# Altium footprint library STC智能车.PcbLib: 23 footprints (part 1 of 2)
Each footprint in its own frame and in the unit in brackets; x right, y up, seen from the top. Pads: shape width x height; smd on the part's side, far side on the other; paste and mask are expansions set on the pad; w line width, h text height; cw(c..) or ccw(c..) is an arc to the next point about the centre after c.
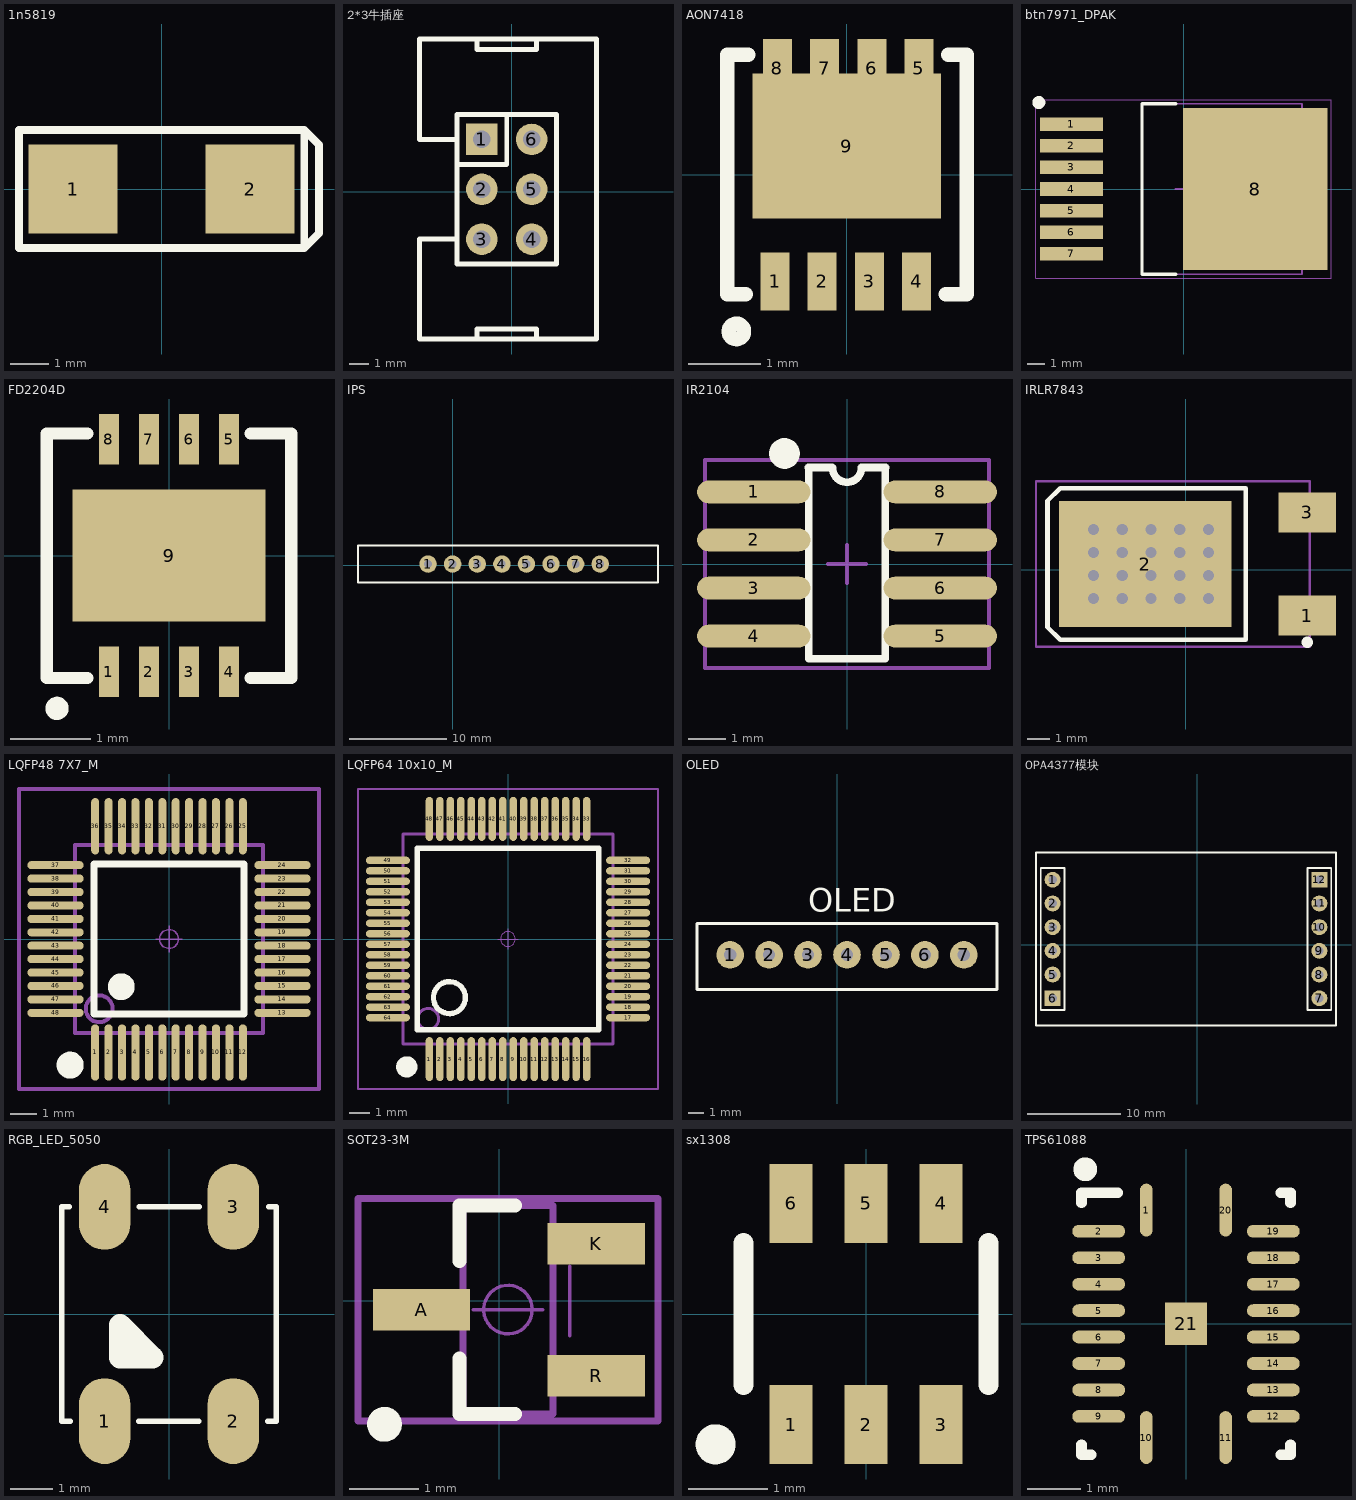
[diagram p0: the footprints below, top view; thin cyan lines are the x and y axes]

## 1n5819 [mm]
pads (2):
  rect 2.3x2.3 smd: 1(-2.286,0) 2(2.286,0)
Top Overlay:
  lines w0.2: -3.683,-1.524 -3.683,1.524 3.683,1.524 3.683,-1.524 -3.683,-1.524
  lines w0.203: 3.683,-1.524 4.064,-1.143 4.064,1.143 3.683,1.524
3D body "SOD-123.STEP": height 1.22, standoff 0, extent -1.85,-0.8 1.85,0.8

## 2*3牛插座 [mm]
pads (6):
  rect 1.6x1.6 hole 0.9: 1(-1.524,2.654)
  round 1.6 hole 0.9: 2(-1.524,0.114) 3(-1.524,-2.426) 4(1.016,-2.426) 5(1.016,0.114) 6(1.016,2.654)
Top Overlay:
  lines w0.254: -2.794,-2.426 -4.699,-2.426 -4.699,-7.506 4.318,-7.506 4.318,7.764 -4.699,7.764 -4.699,2.654 -2.794,2.654 ; -2.794,1.384 -0.254,1.384 -0.254,3.924 ; -1.778,-7.506 -1.778,-6.998 1.27,-6.998 1.27,-7.379 ; -1.778,7.764 -1.778,7.226 1.27,7.226 1.27,7.734 ; -2.794,-3.696 -2.794,3.924 2.286,3.924 2.286,-3.696 -2.794,-3.696
Bottom Overlay:
  lines w0.6: -2.54,-1.156 1.829,-1.156 ; -2.54,1.384 1.829,1.384 ; -0.254,-3.696 -0.254,3.696
3D body "IDC2.54-6P.STEP": height 9.17, standoff -3, extent -4.604,-7.506 4.246,7.734

## AON7418 [mil]
pads (9):
  rect 15.74x31.5 smd: 1(-39.04,-57.87) 2(-13.45,-57.87) 3(12.14,-57.87) 4(37.73,-57.87) 5(39.04,57.87) 6(13.44,57.87) 7(-12.16,57.87) 8(-37.76,57.87)
  rect 102.36x78.74 smd: 9(-0.18,15.49)
Top Overlay:
  circle w7.87: c-60,-85 r4.12
  lines w7.87: -54.95,-64.96 -64.96,-64.96 -64.96,64.96 -53.66,64.96 ; 53.64,-64.96 64.96,-64.96 64.96,64.96 54.95,64.96
3D body: height 23.62, standoff 0, extent -65,-65 65,65

## btn7971_DPAK [mm] "D2-PAK, 8-Pads, Body 7.80x8.36mm (max), IPC Medium Density"
height 4.4
pads (8):
  rect 3.7x0.8 smd: 1(-6.6,3.81) 2(-6.6,2.54) 3(-6.6,1.27) 4(-6.6,0) 5(-6.6,-1.27) 6(-6.6,-2.54) 7(-6.6,-3.81)
  rect 8.5x9.5 smd: 8(4.2,0)
Top Overlay:
  circle w0.508: c-8.509,5.08 r0.125
  lines w0.2: -0.45,-5 -2.45,-5 -2.45,5 -0.45,5
Mechanical 13:
  lines w0.1: -2.45,-5 -2.45,5 6.95,5 6.95,-5 -2.45,-5
Mechanical 15:
  lines w0.05: -8.675,-5.25 -8.675,5.25 8.675,5.25 8.675,-5.25 -8.675,-5.25
  lines w0.1: -0.5,0 0.5,0 ; 0,-0.5 0,0.5
3D body: height 4.4, standoff 1.3, extent -0.763,-5 8.637,5

## FD2204D [mm]
pads (9):
  rect 0.25x0.63 smd: 1(-0.75,-1.45) 2(-0.25,-1.45) 3(0.25,-1.45) 4(0.75,-1.45) 5(0.75,1.45) 6(0.25,1.45) 7(-0.25,1.45) 8(-0.75,1.45)
  rect 2.4x1.65 smd: 9(0,0)
Top Overlay:
  circle w0.15: c-1.397,-1.905 r0.07
  lines w0.15: -1.016,-1.524 -1.524,-1.524 -1.524,1.524 -1.016,1.524 ; 1.016,-1.524 1.524,-1.524 1.524,1.524 1.016,1.524
3D body: height 0.25, standoff 0, extent -1.524,-1.521 1.521,1.524

## IPS [mm]
pads (8):
  round 1.8 hole 0.8: 1(-2.54,0.127) 2(0,0.127) 3(2.54,0.127) 4(5.08,0.127) 5(7.62,0.127) 6(10.16,0.127) 7(12.7,0.127) 8(15.24,0.127)
Top Overlay:
  lines w0.2: -9.779,-1.778 -9.779,2.046 21.209,2.046 21.209,-1.778 -9.779,-1.778

## IR2104 [mm]
pads (8):
  oval 3x0.6 smd: 1(-2.464,1.905) 2(-2.464,0.635) 3(-2.464,-0.635) 4(-2.464,-1.905) 5(2.464,-1.905) 6(2.464,-0.635) 7(2.464,0.635) 8(2.464,1.905)
Top Overlay:
  circle w0.5: c-1.651,2.921 r0.155
  lines w0.2: -1.016,2.55 -1.016,-2.5 1.016,-2.5 1.016,2.55
  lines w0.203: -1.016,2.55 -0.395,2.55 ; -0.381,2.54 ccw(c0,2.54) 0.381,2.54 ; 0.381,2.55 1.016,2.55
Mechanical 15:
  lines w0.1: -0.5,0 0.5,0 ; 0,-0.5 0,0.5 ; -3.75,-2.75 -3.75,2.75 3.75,2.75 3.75,-2.75 -3.75,-2.75
3D body "SOP8.STEP": height 1.9, standoff 0, extent -3.003,-2.5 3.003,2.5

## IRLR7843 [mil]
pads (3):
  rect 100x70 smd: 1(211.73,-79.76) 3(211.73,99.76)
  rect 299.21x218.5 smd: 2(-70,10)
via 40,-50 diameter 31.5 hole 19.68
via 40,-10 diameter 31.5 hole 19.68
via 40,70 diameter 31.5 hole 19.68
via 40,30 diameter 31.5 hole 19.68
via -160,-50 diameter 31.5 hole 19.68
via -60,-50 diameter 31.5 hole 19.68
via -10,-10 diameter 31.5 hole 19.68
via -10,-50 diameter 31.5 hole 19.68
via -10,30 diameter 31.5 hole 19.68
via -10,70 diameter 31.5 hole 19.68
via -60,-10 diameter 31.5 hole 19.68
via -60,30 diameter 31.5 hole 19.68
via -60,70 diameter 31.5 hole 19.68
via -110,-50 diameter 31.5 hole 19.68
via -110,-10 diameter 31.5 hole 19.68
via -110,30 diameter 31.5 hole 19.68
via -110,70 diameter 31.5 hole 19.68
via -160,-10 diameter 31.5 hole 19.68
via -160,30 diameter 31.5 hole 19.68
via -160,70 diameter 31.5 hole 19.68
Top Overlay:
  circle w9.84: c211.73,-126.02 r4.92
  lines w7.87: -240,-100 -240,120 -218.11,141.89 105,141.89 105,-121.89 -218.11,-121.89 -240,-100
Mechanical 15:
  lines w3.94: -2.83,10 36.54,10 ; 16.85,-9.69 16.85,29.68 ; -260,-133.7 -260,153.7 215.87,153.7 215.87,-133.7 -260,-133.7
3D body "TO252.STEP": height 90.55, standoff -0.2, extent -165.84,-127.95 205,127.95

## LQFP48 7X7_M [mm] "48脚，体宽7x7mm，脚距0.5mm      淘宝ID:黄晶宝石"
height 1.6
pads (48):
  oval 0.3x2.1 smd: 1(-2.75,-4.227) 2(-2.25,-4.227) 3(-1.75,-4.227) 4(-1.25,-4.227) 5(-0.75,-4.227) 6(-0.25,-4.227) 7(0.25,-4.227) 8(0.75,-4.227) 9(1.25,-4.227) 10(1.75,-4.227) 11(2.25,-4.227) 12(2.75,-4.227) 25(2.75,4.202) 26(2.25,4.202) 27(1.75,4.202) 28(1.25,4.202) 29(0.75,4.202) 30(0.25,4.202) 31(-0.25,4.202) 32(-0.75,4.202) 33(-1.25,4.202) 34(-1.75,4.202) 35(-2.25,4.202) 36(-2.75,4.202)
  oval 2.1x0.3 smd: 13(4.227,-2.75) 14(4.227,-2.25) 15(4.227,-1.75) 16(4.227,-1.25) 17(4.227,-0.75) 18(4.227,-0.25) 19(4.227,0.25) 20(4.227,0.75) 21(4.227,1.25) 22(4.227,1.75) 23(4.227,2.25) 24(4.227,2.75) 37(-4.227,2.75) 38(-4.227,2.25) 39(-4.227,1.75) 40(-4.227,1.25) 41(-4.227,0.75) 42(-4.227,0.25) 43(-4.227,-0.25) 44(-4.227,-0.75) 45(-4.227,-1.25) 46(-4.227,-1.75) 47(-4.227,-2.25) 48(-4.227,-2.75)
Top Overlay:
  circle w0.5: c-1.778,-1.778 r0.25
  circle w0.508: c-3.683,-4.699 r0.25
  lines w0.254: -2.794,-2.794 2.794,-2.794 2.794,2.794 -2.794,2.794 -2.794,-2.794
Mechanical 13:
  circle w0.15: c-2.6,-2.6 r0.5
  lines w0.15: -3.5,-3.5 -3.5,3.5 3.5,3.5 3.5,-3.5 -3.5,-3.5
Mechanical 15:
  circle w0.05: c0,0 r0.35
  lines w0.05: -0.5,0 0.5,0 ; 0,-0.5 0,0.5
  lines w0.15: -5.588,-5.588 -5.588,5.588 5.588,5.588 5.588,-5.588 -5.588,-5.588
3D body "LQFP48-7x7.STEP": height 1.45, standoff 0, extent -4.503,-4.503 4.503,4.503

## LQFP64 10x10_M [mm] "64脚，体宽10x10mm，脚距0.5mm         淘宝ID:黄晶宝石"
height 1.6
pads (64):
  oval 0.35x2.1 smd: 1(-3.75,-5.727) 2(-3.25,-5.727) 3(-2.75,-5.727) 4(-2.25,-5.727) 5(-1.75,-5.727) 6(-1.25,-5.727) 7(-0.75,-5.727) 8(-0.25,-5.727) 9(0.25,-5.727) 10(0.75,-5.727) 11(1.25,-5.727) 12(1.75,-5.727) 13(2.25,-5.727) 14(2.75,-5.727) 15(3.25,-5.727) 16(3.75,-5.727) 33(3.75,5.727) 34(3.25,5.727) 35(2.75,5.727) 36(2.25,5.727) 37(1.75,5.727) 38(1.25,5.727) 39(0.75,5.727) 40(0.25,5.727) 41(-0.25,5.727) 42(-0.75,5.727) 43(-1.25,5.727) 44(-1.75,5.727) 45(-2.25,5.727) 46(-2.75,5.727) 47(-3.25,5.727) 48(-3.75,5.727)
  oval 2.1x0.35 smd: 17(5.727,-3.75) 18(5.727,-3.25) 19(5.727,-2.75) 20(5.727,-2.25) 21(5.727,-1.75) 22(5.727,-1.25) 23(5.727,-0.75) 24(5.727,-0.25) 25(5.727,0.25) 26(5.727,0.75) 27(5.727,1.25) 28(5.727,1.75) 29(5.727,2.25) 30(5.727,2.75) 31(5.727,3.25) 32(5.727,3.75) 49(-5.727,3.75) 50(-5.727,3.25) 51(-5.727,2.75) 52(-5.727,2.25) 53(-5.727,1.75) 54(-5.727,1.25) 55(-5.727,0.75) 56(-5.727,0.25) 57(-5.727,-0.25) 58(-5.727,-0.75) 59(-5.727,-1.25) 60(-5.727,-1.75) 61(-5.727,-2.25) 62(-5.727,-2.75) 63(-5.727,-3.25) 64(-5.727,-3.75)
Top Overlay:
  circle w0.254: c-2.794,-2.794 r0.762
  circle w0.508: c-4.826,-6.096 r0.25
  lines w0.254: -4.318,-4.318 -4.318,4.318 4.318,4.318 4.318,-4.318 -4.318,-4.318
Mechanical 13:
  circle w0.15: c-3.81,-3.81 r0.5
  lines w0.15: -5,-5 -5,5 5,5 5,-5 -5,-5
Mechanical 15:
  circle w0.05: c0,0 r0.35
  lines w0.05: -0.5,0 0.5,0 ; 0,-0.5 0,0.5
  lines w0.1: -7.15,-7.15 7.15,-7.15 7.15,7.15 -7.15,7.15 -7.15,-7.15
3D body "LQFP64-10x10.STEP": height 1.45, standoff -0.01, extent -6.003,-6.003 6.003,6.003

## OLED [mm]
pads (7):
  round 1.8 hole 0.8: 1(-6.985,14.464) 2(-4.445,14.464) 3(-1.905,14.464) 4(0.635,14.464) 5(3.175,14.464) 6(5.715,14.464) 7(8.255,14.464)
Top Overlay:
  lines w0.2: -9.144,12.192 -9.144,16.51 10.414,16.51 10.414,12.192 6.763,12.192 -6.382,12.192 -9.144,12.192
  text "OLED" at -1.905,17.272 h1.52

## OPA4377模块 [mm]
pads (12):
  round 1.7 hole 0.9: 1(-15.494,6.985) 2(-15.494,4.445) 3(-15.494,1.905) 4(-15.494,-0.635) 5(-15.494,-3.175) 7(13.081,-5.715) 8(13.081,-3.175) 9(13.081,-0.635) 10(13.081,1.905) 11(13.081,4.445)
  rect 1.7x1.7 hole 0.9: 6(-15.494,-5.715) 12(13.081,6.985)
Top Overlay:
  lines w0.2: -16.764,-6.985 -14.224,-6.985 -14.224,8.255 -16.764,8.255 -16.764,-6.985 ; 11.811,-6.985 11.811,8.255 14.351,8.255 14.351,-6.985 11.811,-6.985
  lines w0.254: -17.272,-8.636 14.859,-8.636 14.859,9.906 -17.272,9.906 -17.272,-8.636
3D body "HDR2.54-1P.STEP": height 8.5, standoff -3, extent -16.764,5.715 -14.224,8.255
3D body "HDR2.54-1P.STEP": height 8.5, standoff -3, extent -16.764,3.175 -14.224,5.715
3D body "HDR2.54-1P.STEP": height 8.5, standoff -3, extent -16.764,0.635 -14.224,3.175
3D body "HDR2.54-1P.STEP": height 8.5, standoff -3, extent -16.764,-1.905 -14.224,0.635
3D body "HDR2.54-1P.STEP": height 8.5, standoff -3, extent -16.764,-4.445 -14.224,-1.905
3D body "HDR2.54-1P.STEP": height 8.5, standoff -3, extent -16.764,-6.985 -14.224,-4.445
3D body "HDR2.54-1P.STEP": height 8.5, standoff -3, extent 11.811,-6.985 14.351,-4.445
3D body "HDR2.54-1P.STEP": height 8.5, standoff -3, extent 11.811,-4.445 14.351,-1.905
3D body "HDR2.54-1P.STEP": height 8.5, standoff -3, extent 11.811,-1.905 14.351,0.635
3D body "HDR2.54-1P.STEP": height 8.5, standoff -3, extent 11.811,0.635 14.351,3.175
3D body "HDR2.54-1P.STEP": height 8.5, standoff -3, extent 11.811,3.175 14.351,5.715
3D body "HDR2.54-1P.STEP": height 8.5, standoff -3, extent 11.811,5.715 14.351,8.255

## RGB_LED_5050 [mm]
pads (4):
  oval 1.2x2 smd: 1(-1.5,-2.5) 2(1.5,-2.5) 3(1.5,2.5) 4(-1.5,2.5)
Top Overlay:
  lines w0.127: -2.326,2.5 -2.5,2.5 -2.5,-2.5 -2.3,-2.5 ; -0.711,-2.5 0.697,-2.5 ; -0.697,2.5 0.711,2.5 ; 2.3,-2.5 2.5,-2.5 2.5,2.5 2.326,2.5
  lines w0.508: -1.143,-1.016 -1.143,-0.254 -0.381,-1.016 -1.143,-1.016
3D body "User Library-ws2812B-1White.STEP": height 1.55, standoff -0.02, extent -2.5,-2.7 2.5,2.7

## SOT23-3M [mm] "3x1.3x1mm(长宽高)    封装库来自淘宝卖家 ID：黄晶宝石"
height 1.1
pads (3):
  rect 1.4x0.6 smd: A(-1.117,-0.127) K(1.397,0.823) R(1.397,-1.077)
Top Overlay:
  circle w0.25: c-1.651,-1.778 r0.125
  lines w0.2: -0.573,-0.827 -0.573,-1.627 0.227,-1.627 ; -0.573,0.573 -0.573,1.373 0.227,1.373
Mechanical 13:
  lines w0.1: -0.523,-1.627 -0.523,1.373 0.777,1.373 0.777,-1.627 -0.523,-1.627
Mechanical 15:
  circle w0.05: c0.127,-0.127 r0.35
  lines w0.05: -0.373,-0.127 0.627,-0.127 ; 1.016,-0.5 1.016,0.5
  lines w0.1: -2.032,-1.727 -2.032,1.473 2.286,1.473 2.286,-1.727 -2.032,-1.727
3D body "SOT23-3.STEP": height 1.05, standoff 0, extent -1.073,-1.627 1.327,1.373

## sx1308 [mm]
pads (6):
  rect 0.55x1 smd: 1(-0.95,-1.4) 2(0,-1.4) 3(0.95,-1.4) 4(0.95,1.4) 5(0,1.4) 6(-0.95,1.4)
Top Overlay:
  circle w0.254: c-1.905,-1.651 r0.127
  lines w0.254: -1.55,-0.9 -1.55,0.9 ; 1.55,-0.9 1.55,0.9
3D body: height 0.6, standoff 0, extent -1.524,1.397 -1.524,1.397
3D body: height 0.6, standoff 0, extent -1.397,-1.397 -1.397,-1.397
3D body: height 0.6, standoff 0, extent -1.524,-1.46 1.524,1.461

## TPS61088 [mm]
pads (21):
  oval 0.24x1 smd paste-0.102 mask+0.051: 1(-0.75,2.15) 10(-0.75,-2.15) 11(0.75,-2.15) 20(0.75,2.15)
  oval 1x0.24 smd paste-0.102 mask+0.051: 2(-1.65,1.75) 3(-1.65,1.25) 4(-1.65,0.75) 5(-1.65,0.25) 6(-1.65,-0.25) 7(-1.65,-0.75) 8(-1.65,-1.25) 9(-1.65,-1.75) 12(1.65,-1.75) 13(1.65,-1.25) 14(1.65,-0.75) 15(1.65,-0.25) 16(1.65,0.25) 17(1.65,0.75) 18(1.65,1.25) 19(1.65,1.75)
  rect 0.8x0.8 smd paste-0.137 mask+0: 21(0,0)
Top Overlay:
  circle w0.25: c-1.905,2.921 r0.1
  lines w0.2: -1.975,-2.29 -1.975,-2.475 -1.79,-2.475 ; -1.975,2.29 -1.975,2.475 -1.29,2.475 ; 1.79,-2.475 1.975,-2.475 1.975,-2.29 ; 1.79,2.475 1.975,2.475 1.975,2.29
Top Paste:
  region: -0.39,-1.628 -0.39,-1.925 0.39,-1.925 0.39,-1.628
  region: -0.39,1.925 -0.39,1.628 0.39,1.628 0.39,1.925
  region: 0.1,1.428 0.1,0.1 1.017,0.1 1.017,1.428
  region: -0.1,0.1 -0.1,1.428 -1.017,1.428 -1.017,0.1
  region: -0.1,-1.428 -0.1,-0.1 -1.017,-0.1 -1.017,-1.428
  region: 0.1,-0.1 0.1,-1.428 1.017,-1.428 1.017,-0.1
3D body: height 0.25, standoff 0, extent 0,0 0.254,0.254
3D body "QFN20-4X4.STEP": height 0.95, standoff -0.05, extent -2.01,-1.905 2.01,2.115